# Altium schematic symbol library DEGSON_DG25.SchLib: 1 symbol
Pins are listed as number, name and electrical type; pins without a type are passive.

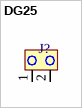
[diagram p0: symbol DG25]

## DG25
designator J?, comment DEGSON  (value not drawn)
footprint DEGSON_DG25
pins: 1, 2